# Altium footprint library SOD123.PcbLib: 1 footprints
Each footprint in its own frame and in the unit in brackets; x right, y up, seen from the top. Pads: shape width x height; smd on the part's side, far side on the other; paste and mask are expansions set on the pad; w line width, h text height; cw(c..) or ccw(c..) is an arc to the next point about the centre after c.
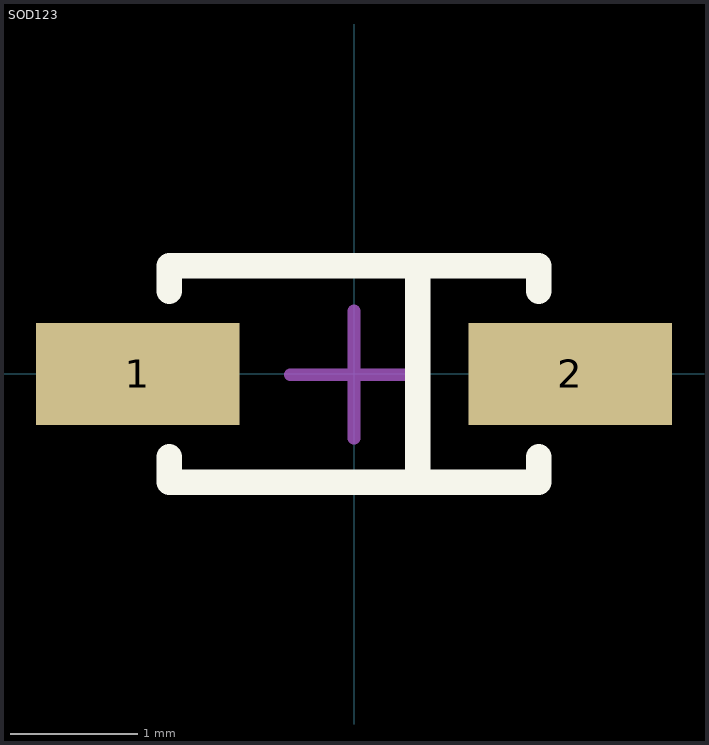
[diagram p0: the footprint, top view; thin cyan lines are the x and y axes]

## SOD123 [mm] "SOD-123; 2 Leads; Body 2.7 x 1.6 mm, (LxW)"
height 1.35
pads (2):
  rect 1.6x0.8 smd: 1(-1.7,0) 2(1.7,0)
Top Overlay:
  lines w0.2: -1.45,-0.65 -1.45,-0.85 1.45,-0.85 1.45,-0.65 ; -1.45,0.65 -1.45,0.85 1.45,0.85 1.45,0.65 ; 0.5,-0.85 0.5,0.85
Mechanical 15:
  lines w0.1: -0.5,-0.005 0.5,-0.005 ; 0,-0.505 0,0.495
3D body: height 0.4, standoff 0.1, extent -2.286,-0.381 -1.016,0.381
3D body: height 0.4, standoff 0.1, extent 1.016,-0.381 2.286,0.381
3D body: height 1.35, standoff 0, extent -1.397,-0.889 1.397,0.889